# EAGLE library part 8-PIN_MIC_REV2015 (library NewSDR)
8-PIN FOSTER connector, dimensions revised to material 'as received' June, 2015
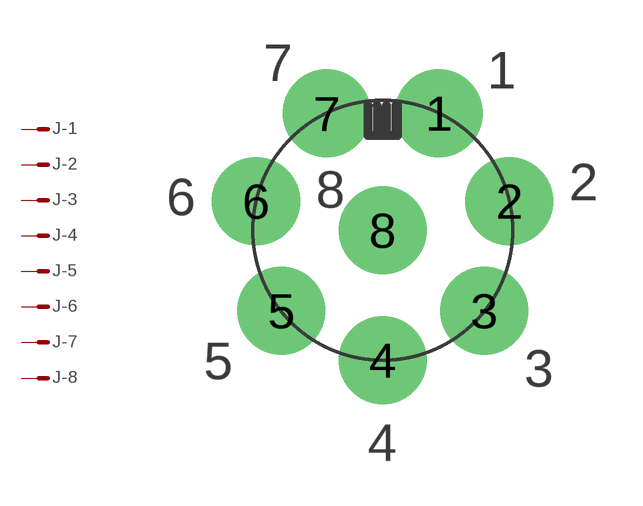
[diagram p220: symbol with the pads of 8-PIN_MIC_REV2105; footprint 8-PIN_MIC_REV2105]

Designator prefix J; gates -1=M -2=M -3=M -4=M -5=M -6=M -7=M -8=M

## 8-PIN_MIC_REV2015  [8-PIN_MIC_REV2105]
1  -1:M  pas
2  -2:M  pas
3  -3:M  pas
4  -4:M  pas
5  -5:M  pas
6  -6:M  pas
7  -7:M  pas
8  -8:M  pas

## Footprint 8-PIN_MIC_REV2105 (pad centres in mm)
8 Pin FOSTER connector installed through-hole, viewed from bottom of board. Revised with new dimensions, June 2015 per currently received material.
drill 2: 1 1.905,3.988; 2 4.318,0.991; 3 3.454,-2.743; 4 0,-4.42; 5 -3.454,-2.743; 6 -4.318,0.991; 7 -1.905,3.988; 8 0,0